# Altium footprint library FOC_DRV8323.PcbLib: 20 footprints (part 2 of 2)
Each footprint in its own frame and in the unit in brackets; x right, y up, seen from the top. Pads: shape width x height; smd on the part's side, far side on the other; paste and mask are expansions set on the pad; w line width, h text height; cw(c..) or ccw(c..) is an arc to the next point about the centre after c.
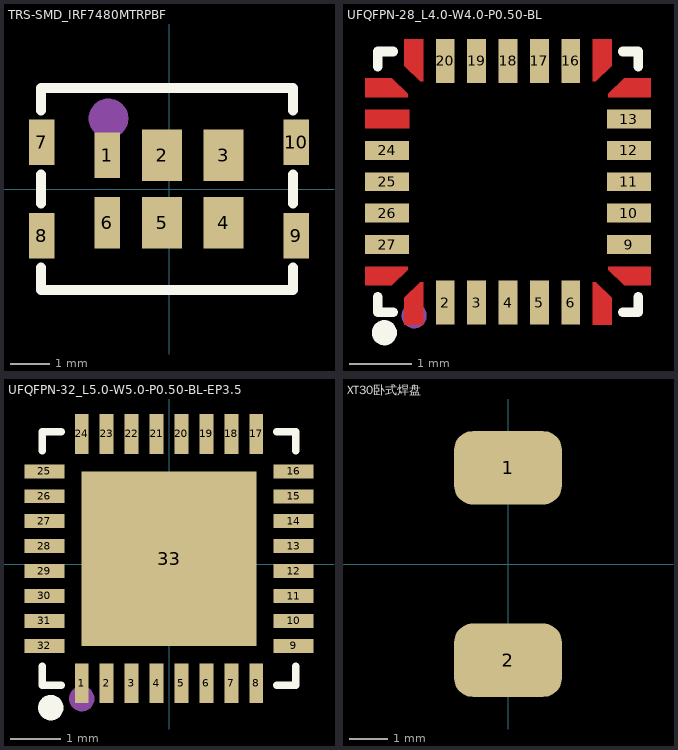
[diagram p1: the footprints below, top view; thin cyan lines are the x and y axes]

## TRS-SMD_IRF7480MTRPBF [mm]
pads (10):
  rect 0.65x1.15 smd paste+0 mask+0.051: 1(-1.555,0.85) 7(-3.205,1.175) 8(-3.205,-1.175) 9(3.205,-1.175) 10(3.205,1.175)
  rect 1x1.3 smd paste+0 mask+0.051: 2(-0.175,0.85) 3(1.375,0.85) 4(1.375,-0.85) 5(-0.175,-0.85)
  rect 0.65x1.3 smd paste+0 mask+0.051: 6(-1.555,-0.85)
Top Overlay:
  lines w0.254: -3.223,-1.981 -3.223,-2.54 3.127,-2.54 3.127,-1.981 ; -3.223,-0.369 -3.223,0.369 ; -3.223,1.981 -3.223,2.54 3.127,2.54 3.127,1.981 ; 3.127,-0.369 3.127,0.369
Mechanical 15:
  circle w0.5: c-1.524,1.778 r0.25

## UFQFPN-28_L4.0-W4.0-P0.50-BL [mm]
pads (19):
  rect 0.3x0.7 smd paste+0 mask+0.05: 2(380.035,-402.853) 3(380.535,-402.853) 4(381.035,-402.853) 5(381.535,-402.853) 6(382.035,-402.853) 16(382.035,-399.003) 17(381.535,-399.003) 18(381.035,-399.003) 19(380.535,-399.003) 20(380.035,-399.003)
  rect 0.7x0.3 smd paste+0 mask+0.05: 9(382.96,-401.928) 10(382.96,-401.428) 11(382.96,-400.928) 12(382.96,-400.428) 13(382.96,-399.928) 24(379.11,-400.428) 25(379.11,-400.928) 26(379.11,-401.428) 27(379.11,-401.928)
Top Layer:
  region: 382.685,-402.778 382.685,-403.203 382.385,-403.203 382.385,-402.528 382.435,-402.528
  region: 382.885,-402.578 383.31,-402.578 383.31,-402.278 382.635,-402.278 382.635,-402.328
  region: 379.185,-402.578 378.76,-402.578 378.76,-402.278 379.435,-402.278 379.435,-402.328
  region: 379.385,-402.778 379.385,-403.203 379.685,-403.203 379.685,-402.528 379.635,-402.528
  region: 379.385,-399.077 379.385,-398.653 379.685,-398.653 379.685,-399.328 379.635,-399.328
  region: 379.185,-399.278 378.76,-399.278 378.76,-399.578 379.435,-399.578 379.435,-399.528
  region: 382.685,-399.078 382.685,-398.653 382.385,-398.653 382.385,-399.328 382.435,-399.328
  region: 382.885,-399.278 383.31,-399.278 383.31,-399.578 382.635,-399.578 382.635,-399.528
  region: 378.76,-399.778 379.46,-399.778 379.46,-400.078 378.76,-400.078
Top Overlay:
  circle w0.2: c379.065,-403.333 r0.1
  lines w0.152: 378.959,-402.758 378.959,-403.004 379.204,-403.004 ; 378.959,-399.097 378.959,-398.851 379.204,-398.851 ; 382.865,-403.004 383.111,-403.004 383.111,-402.758 ; 382.865,-398.851 383.111,-398.851 383.111,-399.097
Mechanical 15:
  circle w0.2: c379.54,-403.063 r0.1

## UFQFPN-32_L5.0-W5.0-P0.50-BL-EP3.5 [mm]
pads (33):
  rect 0.28x0.8 smd paste-100 mask+0.051: 1(-1.75,-2.392) 2(-1.25,-2.392) 3(-0.75,-2.392) 4(-0.25,-2.392) 5(0.25,-2.392) 6(0.75,-2.392) 7(1.25,-2.392) 8(1.75,-2.392) 17(1.75,2.609) 18(1.25,2.608) 19(0.75,2.609) 20(0.25,2.608) 21(-0.25,2.608) 22(-0.75,2.608) 23(-1.25,2.608) 24(-1.75,2.608)
  rect 0.8x0.28 smd paste-100 mask+0.051: 9(2.5,-1.642) 10(2.5,-1.142) 11(2.5,-0.642) 12(2.5,-0.142) 13(2.5,0.358) 14(2.5,0.858) 15(2.5,1.358) 16(2.5,1.858) 25(-2.5,1.858) 26(-2.5,1.358) 27(-2.5,0.858) 28(-2.5,0.358) 29(-2.5,-0.142) 30(-2.5,-0.642) 31(-2.5,-1.142) 32(-2.5,-1.642)
  rect 3.5x3.5 smd paste-100 mask+0.051: 33(0,0.108)
Top Overlay:
  circle w0.254: c-2.37,-2.882 r0.127
  lines w0.152: -2.54,-2.051 -2.54,-2.432 -2.159,-2.432 ; -2.54,2.268 -2.54,2.648 -2.159,2.648 ; 2.159,-2.432 2.54,-2.432 2.54,-2.051 ; 2.159,2.648 2.54,2.648 2.54,2.268
Top Paste:
  region: -1.89,-1.992 -1.61,-1.992 -1.61,-2.792 -1.89,-2.792
  region: -1.39,-1.992 -1.11,-1.992 -1.11,-2.792 -1.39,-2.792
  region: -0.89,-1.992 -0.61,-1.992 -0.61,-2.792 -0.89,-2.792
  region: -0.39,-1.992 -0.11,-1.992 -0.11,-2.792 -0.39,-2.792
  region: 0.11,-1.992 0.39,-1.992 0.39,-2.792 0.11,-2.792
  region: 0.61,-1.992 0.89,-1.992 0.89,-2.792 0.61,-2.792
  region: 1.11,-1.992 1.39,-1.992 1.39,-2.792 1.11,-2.792
  region: 1.61,-1.992 1.89,-1.992 1.89,-2.792 1.61,-2.792
  region: 2.1,-1.502 2.9,-1.502 2.9,-1.782 2.1,-1.782
  region: 2.1,-1.002 2.9,-1.002 2.9,-1.282 2.1,-1.282
  region: 2.1,-0.502 2.9,-0.502 2.9,-0.782 2.1,-0.782
  region: 2.1,-0.002 2.9,-0.002 2.9,-0.282 2.1,-0.282
  region: 2.1,0.498 2.9,0.498 2.9,0.218 2.1,0.218
  region: 2.1,0.998 2.9,0.998 2.9,0.718 2.1,0.718
  region: 2.1,1.498 2.9,1.498 2.9,1.218 2.1,1.218
  region: 2.1,1.998 2.9,1.998 2.9,1.718 2.1,1.718
  region: 1.61,3.008 1.89,3.008 1.89,2.208 1.61,2.208
  region: 1.11,3.008 1.39,3.008 1.39,2.208 1.11,2.208
  region: 0.61,3.008 0.89,3.008 0.89,2.208 0.61,2.208
  region: 0.11,3.008 0.39,3.008 0.39,2.208 0.11,2.208
  region: -0.39,3.008 -0.11,3.008 -0.11,2.208 -0.39,2.208
  region: -0.89,3.008 -0.61,3.008 -0.61,2.208 -0.89,2.208
  region: -1.39,3.008 -1.11,3.008 -1.11,2.208 -1.39,2.208
  region: -1.89,3.008 -1.61,3.008 -1.61,2.208 -1.89,2.208
  region: -2.9,1.998 -2.1,1.998 -2.1,1.718 -2.9,1.718
  region: -2.9,1.498 -2.1,1.498 -2.1,1.218 -2.9,1.218
  region: -2.9,0.998 -2.1,0.998 -2.1,0.718 -2.9,0.718
  region: -2.9,0.498 -2.1,0.498 -2.1,0.219 -2.9,0.219
  region: -2.9,-0.002 -2.1,-0.002 -2.1,-0.282 -2.9,-0.282
  region: -2.9,-0.502 -2.1,-0.502 -2.1,-0.782 -2.9,-0.782
  region: -2.9,-1.002 -2.1,-1.002 -2.1,-1.282 -2.9,-1.282
  region: -2.9,-1.502 -2.1,-1.502 -2.1,-1.782 -2.9,-1.782
  region: -1.4,1.508 1.4,1.508 1.4,-1.292 -1.4,-1.292
Mechanical 15:
  circle w0.254: c-1.75,-2.702 r0.127

## XT30卧式焊盘 [mm]
pads (2):
  rrect50% 2.794x1.905 smd: 1(0,2.5) 2(0,-2.5)